# Altium integrated library ECS-2520S18-250-FN-TR.IntLib: 1 symbol
Pins are listed as number, name and electrical type; pins without a type are passive.

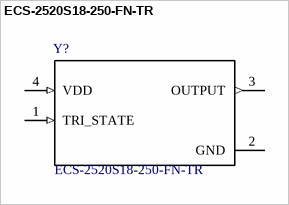
[diagram p0: symbol ECS-2520S18-250-FN-TR]

## ECS-2520S18-250-FN-TR
designator Y?
/ Miniature Crystal Oscillator HCMOS Tight Stability 1.8V 25MHz Â±10ppm -40 to 85Â°C 2.5x2x0.9mm SMD T/R /; MF: ECS Inc.; Availability: Unavailable; Price: None; Package: SMD-4 ECS International; SnapEDA_Link: https://www.snapeda.com/parts/ECS-2520S18-250-FN-TR/ECS%20Inc./view-part/?ref=snap; MP: ECS-2520S18-250-FN-TR; Value: *
footprint *OSC_ECS-2520S18-250-FN-TR
pins: 1 TRI_STATE (in), 2 GND (power), 3 OUTPUT (out), 4 VDD (in)